# EAGLE library part LTC3410B (library IC)
Linear Technology LTC3410B 2.25MHz, 300mA Synchronous Step-Down Regulator in SC70
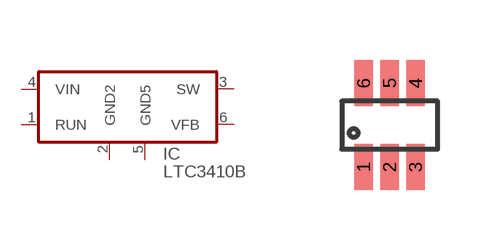
[diagram p135: symbol with the pads of SC70-6; footprint SC70-6]

Designator prefix IC

## LTC3410B  [SC70-6]
1  RUN
2  GND2  pwr
3  SW  out
4  VIN
5  GND5  pwr
6  VFB

## Footprint SC70-6 (pad centres in mm)
SC70-6 package with larger pads
smd 0.47 x 1.16: 1 -0.65,-1.05; 2 0,-1.05; 3 0.65,-1.05; 4 0.65,1.05; 5 0,1.052; 6 -0.65,1.05